# Altium footprint library PcbLib1.PcbLib: 31 footprints (part 2 of 2)
Each footprint in its own frame and in the unit in brackets; x right, y up, seen from the top. Pads: shape width x height; smd on the part's side, far side on the other; paste and mask are expansions set on the pad; w line width, h text height; cw(c..) or ccw(c..) is an arc to the next point about the centre after c.
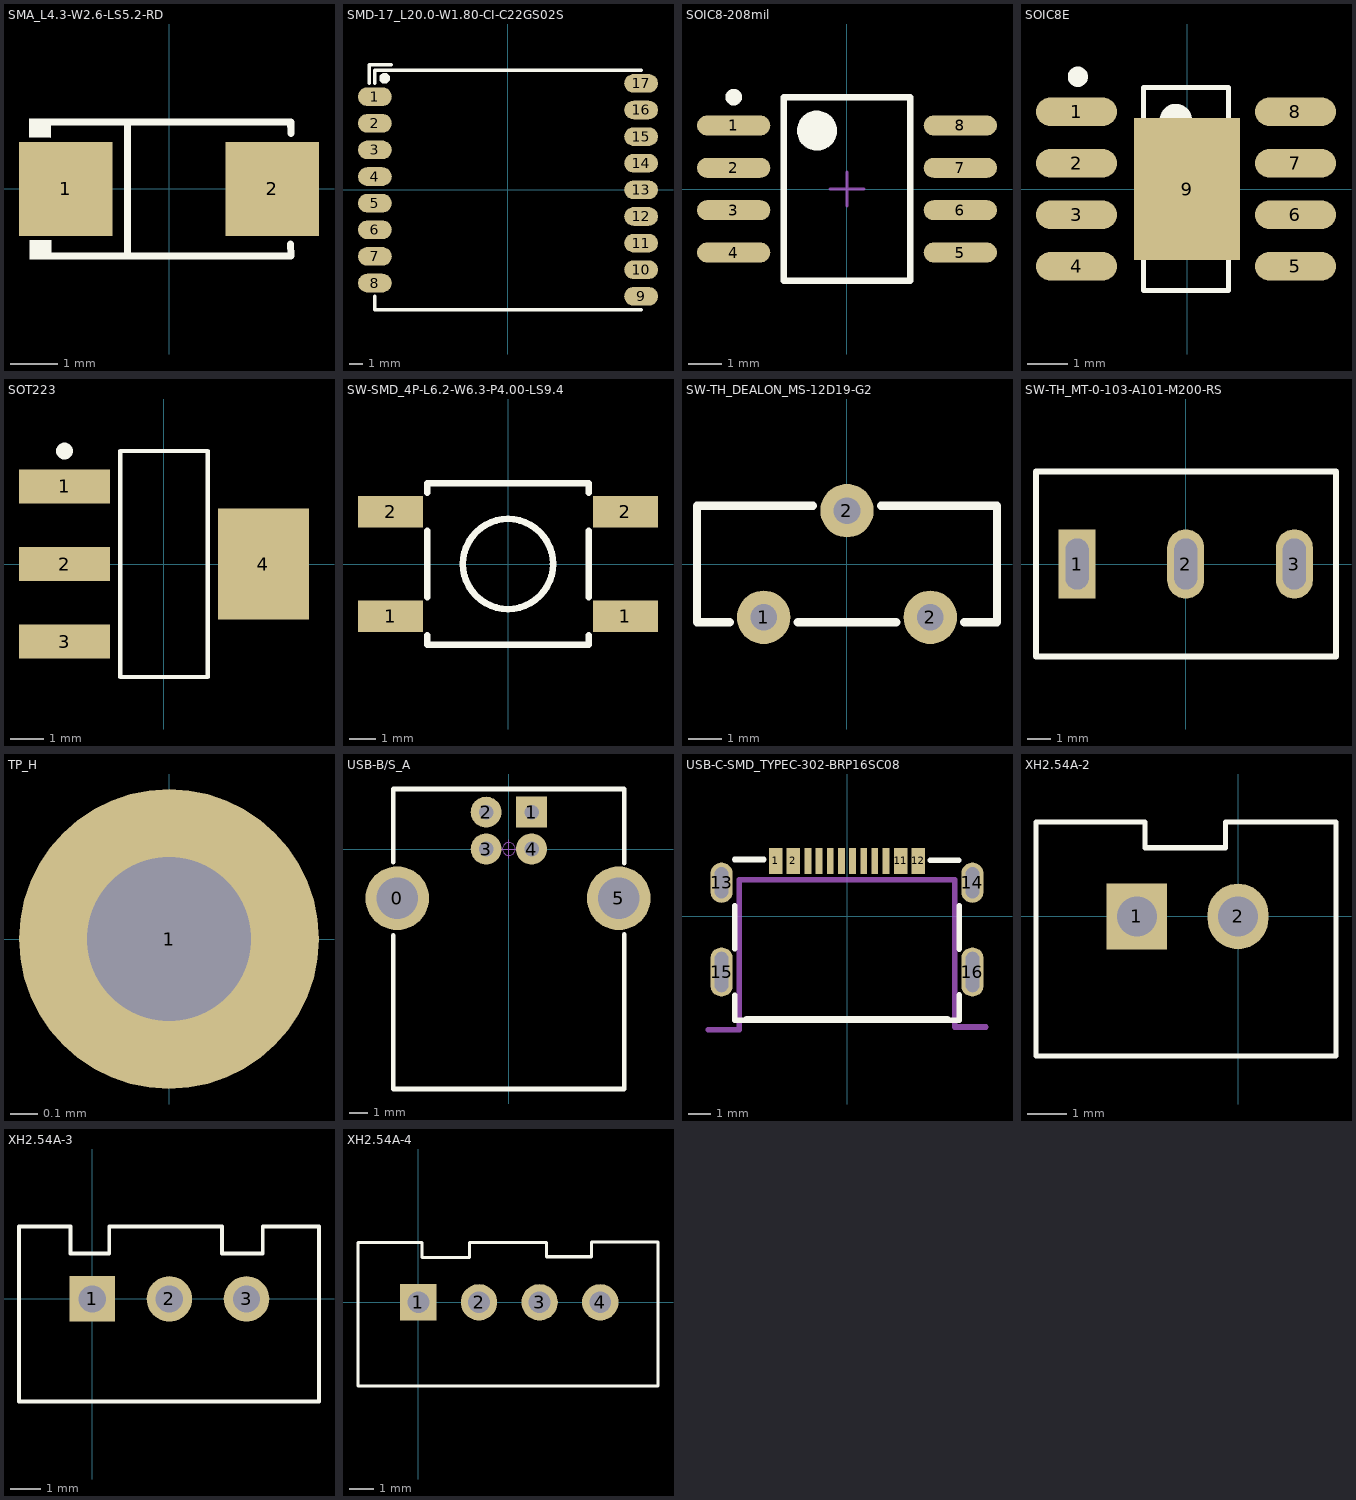
[diagram p1: the footprints below, top view; thin cyan lines are the x and y axes]

## PCBComponent_1 [mm]

## SMA_L4.3-W2.6-LS5.2-RD [mm]
pads (2):
  rect 2x2 smd: 1(-2.2,0) 2(2.2,0)
Top Overlay:
  region: -2.512,-1.096 -2.513,-1.503 -2.973,-1.498 -2.969,-1.096
  region: -2.52,1.502 -2.521,1.096 -2.981,1.1 -2.977,1.502
  lines w0.152: -2.596,-1.426 2.596,-1.426 ; -2.596,1.426 2.596,1.426 2.603,1.187 ; -0.884,-1.426 -0.884,1.426 ; 2.593,-1.176 2.6,-1.415
Mechanical 15:
  region: 2.014,-0.675 2.014,0.675 1.811,0.675 1.811,-0.675
  region: 2.317,-0.101 2.317,0.101 1.507,0.101 1.507,-0.101
  region: -2.317,-0.101 -2.317,0.101 -1.507,0.101 -1.507,-0.101

## SMD-17_L20.0-W1.80-CI-C22GS02S [mm]
pads (17):
  oval 2.54x1.4 smd: 1(-10,7) 2(-10,5) 3(-10,3) 4(-10,1) 5(-10,-1) 6(-10,-3) 7(-10,-5) 8(-10,-7) 9(10,-8) 10(10,-6) 11(10,-4) 12(10,-2) 13(10,0) 14(10,2) 15(10,4) 16(10,6) 17(10,8)
Top Overlay:
  circle w0.4: c-9.271,8.382 r0.2
  lines w0.254: -10.414,8.001 -10.414,9.398 -8.763,9.398 ; -10,-8 -10,-9 10,-9 ; -10,8 -10,9 10,9 ; -8.763,9.398 -8.763,9.398
Mechanical 15:
  circle w0.5: c-9.525,6.985 r0.25

## SOIC8-208mil [mm] "SOIC8, 208mil, 8-Leads, Body 5.28x5.28mm, Pitch 1.27mm"
height 1.8
pads (8):
  oval 2.2x0.6 smd: 1(-3.4,1.905) 2(-3.4,0.635) 3(-3.4,-0.635) 4(-3.4,-1.905) 5(3.4,-1.905) 6(3.4,-0.635) 7(3.4,0.635) 8(3.4,1.905)
Top Overlay:
  circle w0.25: c-3.4,2.755 r0.125
  circle w0.6: c-0.9,1.75 r0.3
  lines w0.2: -1.9,-2.75 -1.9,2.75 1.9,2.75 1.9,-2.75 -1.9,-2.75
Mechanical 15:
  lines w0.1: -0.5,0 0.5,0 ; 0,-0.5 0,0.5
3D body "User Library-SOIC8_Wide_5mmx5mm.STEP": height 1.75, standoff -0.01, extent -4.051,-2.73 4.05,2.73

## SOIC8E [mm]
pads (9):
  oval 2x0.7 smd: 1(-2.725,1.905) 2(-2.725,0.635) 3(-2.725,-0.635) 4(-2.725,-1.905) 5(2.675,-1.905) 6(2.675,-0.635) 7(2.675,0.635) 8(2.675,1.905)
  rect 2.62x3.51 smd: 9(0,0)
Top Overlay:
  circle w0.4: c-0.275,1.7 r0.2
  circle w0.25: c-2.692,2.769 r0.125
  lines w0.127: -1.075,-2.5 -1.075,2.5 1.025,2.5 1.025,-2.5 -1.075,-2.5
3D body "SOIC127P600X175-8L.step": height 1.75, standoff 0, extent -3.025,-2.5 2.975,2.5

## SOT223 [mm] "SOT223, 4-Leads, Body 6.50x7.00mm (avg), Pitch 2.30mm, IPC Low Density"
height 1.8
pads (4):
  rect 2.7x1 smd: 1(-2.95,2.3) 2(-2.95,0) 3(-2.95,-2.3)
  rect 2.7x3.3 smd: 4(2.95,0)
Top Overlay:
  circle w0.25: c-2.95,3.35 r0.125
  lines w0.127: -1.3,-3.35 1.3,-3.35 1.3,3.35 -1.3,3.35 -1.3,-3.35
3D body "User Library-SOT223-3.STEP": height 1.7, standoff 0, extent -3.5,-3.225 3.5,3.275

## SW-SMD_4P-L6.2-W6.3-P4.00-LS9.4 [mm]
pads (4):
  rect 2.5x1.2 smd: 1(-4.5,-2) 1(4.5,-2) 2(-4.5,2) 2(4.5,2)
Top Overlay:
  circle w0.254: c0,0 r1.727
  lines w0.254: -3.1,-2.731 -3.1,-3.1 3.1,-3.1 3.1,-2.731 ; -3.1,-1.269 -3.1,1.269 ; -3.1,2.731 -3.1,3.1 3.1,3.1 3.1,2.731 ; 3.1,-1.269 3.1,1.269

## SW-TH_DEALON_MS-12D19-G2 [mm]
pads (3):
  round 1.6 hole 0.8: 1(-2.5,-1.6) 2(0,1.6) 2(2.5,-1.6)
Top Overlay:
  lines w0.254: -3.52,-1.75 -4.5,-1.75 -4.5,1.75 -1.02,1.75 ; -1.48,-1.75 1.48,-1.75 ; 1.02,1.75 4.5,1.75 4.5,-1.75 3.52,-1.75

## SW-TH_MT-0-103-A101-M200-RS [mm]
pads (3):
  rect 1.6x3 hole 1 slot 2.2 at 90 deg: 1(-4.7,0)
  oval 1.6x3 hole 1 slot 2.2 at 90 deg: 2(0,0) 3(4.7,0)
Top Overlay:
  lines w0.254: -6.477,-4 -6.477,4 6.5,4 6.5,-4 -6.477,-4

## TP_H [mm] "测试点-过孔"
pads (1):
  round 1.1 hole 0.6: 1(0,0)

## USB-B/S_A [mm] "b型USB 母座 16.3*13.7*11mm"
height 1.1
pads (6):
  round 3.5 hole 2.3: 0(-6.141,-2.71) 5(6.051,-2.71)
  rect 1.7x1.7 hole 0.8: 1(1.25,2.032)
  round 1.7 hole 0.8: 2(-1.25,2.032) 3(-1.25,0) 4(1.25,0)
Top Overlay:
  lines w0.254: -6.35,-4.737 -6.35,-13.208 6.35,-13.208 6.35,-4.686 ; -6.35,-0.724 -6.35,3.302 6.35,3.302 6.35,-0.775
Mechanical 15:
  circle w0.05: c0,0 r0.35
  lines w0.05: -0.5,0 0.5,0 ; 0,-0.5 0,0.5
3D body "USB B型 ?": height 11.45, standoff -2.95, extent -6.86,-13.16 6.859,3.14

## USB-C-SMD_TYPEC-302-BRP16SC08 [mm]
pads (16):
  rect 0.6x1.15 smd: 1(-3.2,2.488) 2(-2.4,2.488) 11(2.4,2.488) 12(3.2,2.488)
  rect 0.3x1.15 smd: 3(-1.75,2.488) 4(-1.25,2.488) 5(-0.75,2.488) 6(-0.25,2.488) 7(0.25,2.488) 8(0.75,2.488) 9(1.25,2.488) 10(1.75,2.488)
  oval 1x1.8 hole 0.61 slot 1.4 at 90 deg: 13(-5.62,1.513) 14(5.62,1.513)
  oval 1x2.2 hole 0.61 slot 1.8 at 90 deg: 15(-5.62,-2.487) 16(5.62,-2.487)
Top Overlay:
  lines w0.254: -5.035,-3.524 -5.035,-4.65 5.03,-4.65 5.03,-3.517 ; -5.035,-1.451 -5.035,0.476 ; -5.035,2.549 -5.035,2.55 -3.731,2.55 ; -4.5,-4.587 4.5,-4.587 ; 3.731,2.52 5.013,2.52 ; 5.03,-1.457 5.03,0.482
Mechanical 13:
  lines w0.254: -6.223,-5.08 -4.826,-5.08 -4.826,1.651 4.826,1.651 4.826,-4.953 6.223,-4.953

## XH2.54A-2 [mil]
pads (2):
  rect 60x65 hole 39.37: 1(-100.1,0)
  oval 60x65 hole 39.37: 2(0,0)
Top Overlay:
  lines w5: -200,-138 97,-138 97,93.3 66.2,93.3 -12.6,93.3 -12.6,68 -92.1,68 -92.1,93.3 -200,93.3 -200,-138
3D body "sip2_n.stp": height 275.59, standoff -118.11, extent -197.64,-142.11 97.64,94.11

## XH2.54A-3 [mm]
pads (3):
  rect 1.5x1.5 hole 0.9: 1(0,0)
  round 1.5 hole 0.9: 2(2.54,0) 3(5.08,0)
Top Overlay:
  lines w0.127: -2.413,-3.378 -2.413,2.388 -0.711,2.388 -0.711,1.5 0.559,1.5 0.559,2.388 4.267,2.388 4.267,1.5 5.613,1.5 5.613,2.388 7.468,2.388 7.468,-3.378 -2.413,-3.378
3D body "3pin-2.5.step": height 7, standoff -3.4, extent -2.41,-3.408 7.49,2.342

## XH2.54A-4 [mm]
pads (4):
  rect 1.5x1.5 hole 0.9: 1(0,0)
  round 1.5 hole 0.9: 2(2.5,0) 3(5,0) 4(7.5,0)
Top Overlay:
  lines w0.127: -2.489,-3.454 9.881,-3.454 9.881,2.489 7.137,2.489 7.137,1.88 5.283,1.88 5.283,2.464 2.108,2.464 2.108,1.854 0.152,1.854 0.152,2.464 -2.489,2.464 -2.489,-3.454
3D body "4pin-2.5.step": height 7, standoff -3.4, extent -2.466,-3.383 9.934,2.367